# Altium schematic symbol library afra.SchLib: 135 symbols (part 4 of 4)
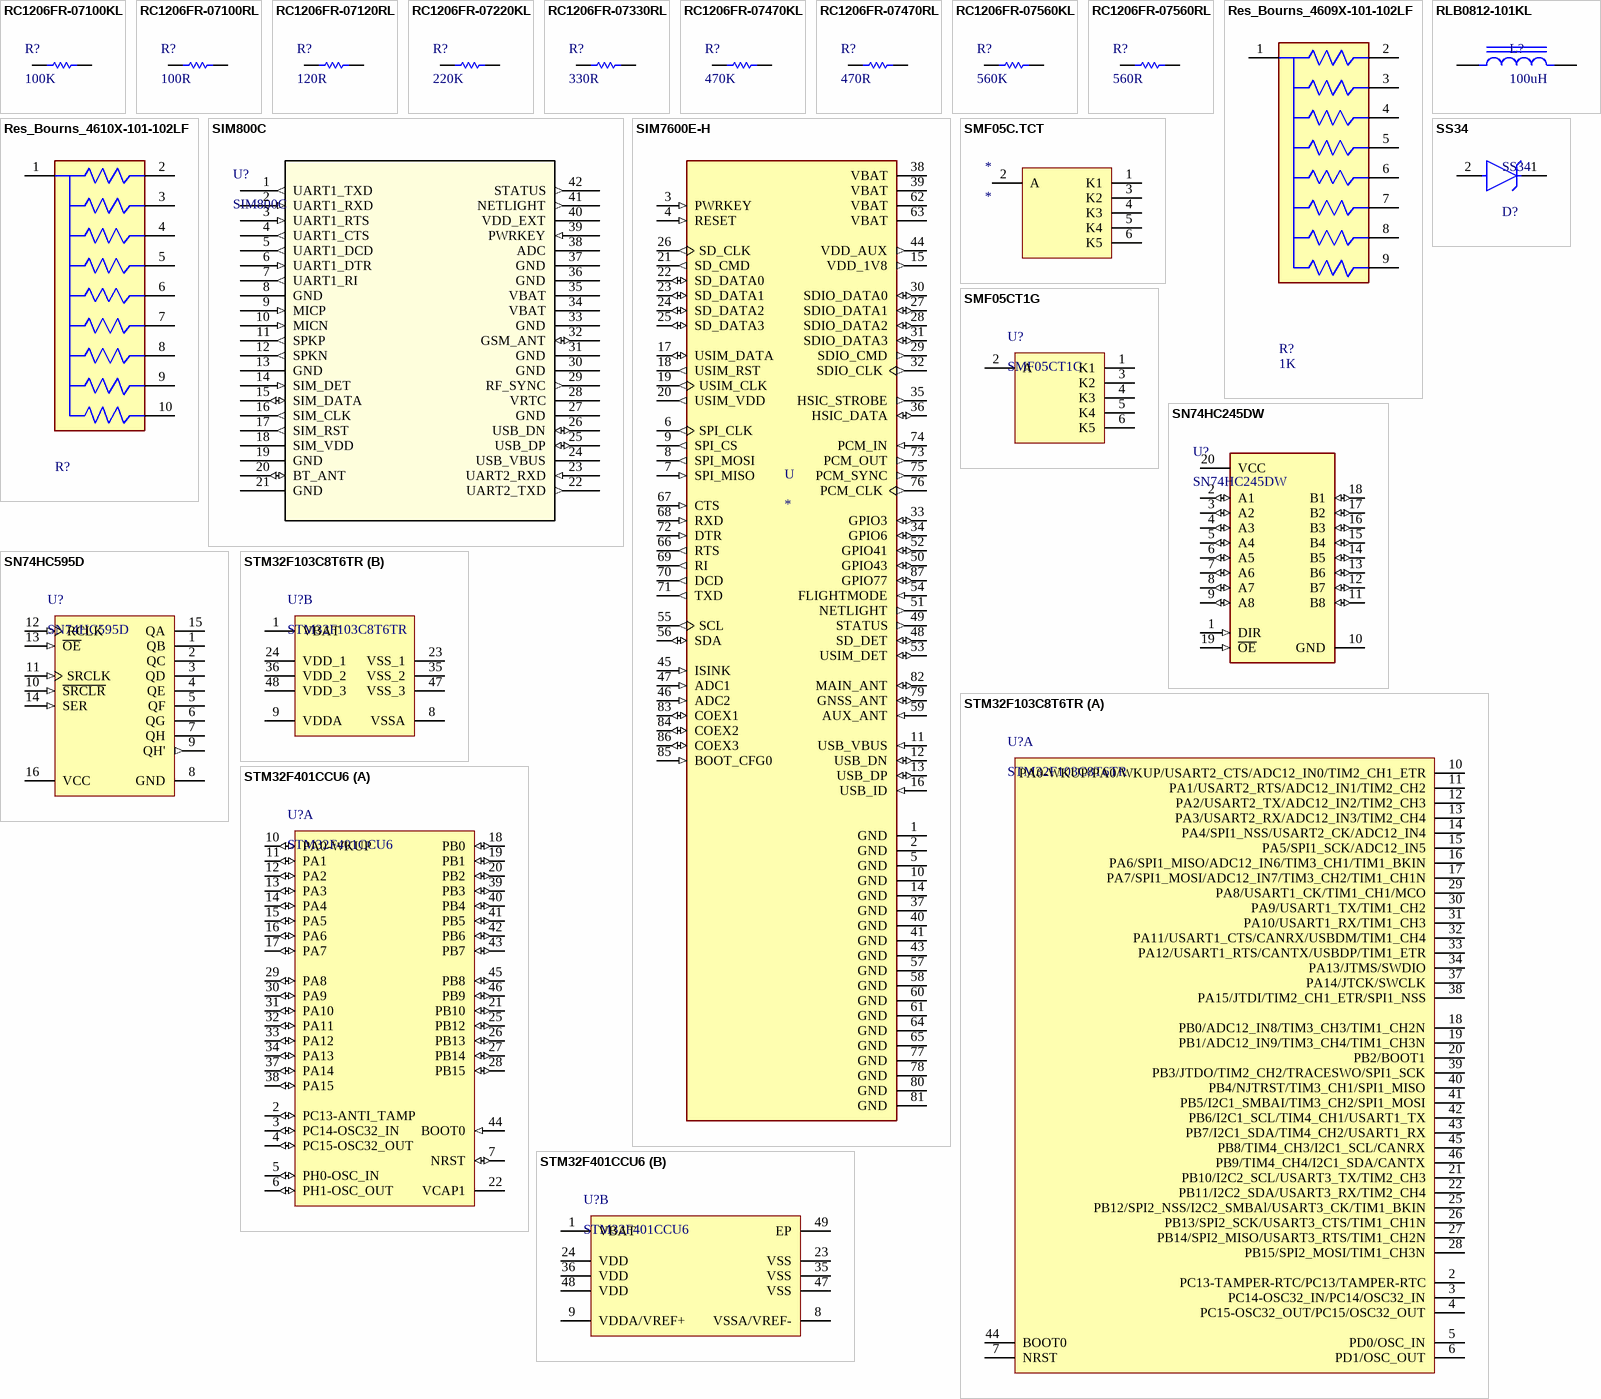
[diagram p7: symbols RC1206FR-07100KL to STM32F401CCU6]

## RC1206FR-07560RL
designator R?, comment 560R
Res Thick Film 1206 560 Ohm 1% 0.25W(1/4W) ±100ppm/°C Pad SMD T/R; Manufacturer: Yageo; Manufacturer Part Number: RC1206FR-07560RL; Power Rating: 250mW; Voltage Rating: 200V; Supplier 1: Arrow Electronics; RoHS: Yes; Category: Chip SMD Resistors; Stock 1: 55000; Pricing 1: 5000=0.01200, 10000=0.01190, 25000=0.01180 (USD); Case/Package: 1206; Case Code (Metric): 3216; Case Code (Imperial): 1206; Size Code: 1206; Min Operating Temperature: -55°C; Max Operating Temperature: 155°C; Resistor Type: Thick Film; Tolerance: 1%; Package Quantity: 1; Resistance: 560R; Packaging: Tape and Reel; Number of Terminations: 2; Termination: SMD/SMT; Temperature Coefficient: 100ppm/°C; Max Power Dissipation: 250mW; Features: Moisture Resistant; Series: RC; Resistance Tolerance: 1%; Technology: THICK FILM; Length: 3.1mm; Width: 0.063inch; Height: 0.55mm; Depth: 1.6mm; REACH SVHC: Unknown; Lead Free: Lead Free; RoHS Compliant: Yes; ComponentLink1URL: https://datasheet.ciiva.com/11809/0900766b80c6630a-11809524.pdf?src-supplier=RSComponents; ComponentLink1Description: https://datasheet.ciiva.com/11809/0900766b80c6630a-11809524.pdf?src-supplier=RSComponents; ComponentLink2URL: https://datasheet.ciiva.com/29181/402516-da-01-en-smd-widerstand-chip1206-560-ohm-29181453.pdf?src-supplier=Conrad; ComponentLink2Description: https://datasheet.ciiva.com/29181/402516-da-01-en-smd-widerstand-chip1206-560-ohm-29181453.pdf?src-supplier=Conrad; ComponentLink3URL: https://datasheet.ciiva.com/2460/pyu-rc1206-51-rohs-l-4-2460178.pdf?src-supplier=Digi-Key; ComponentLink3Description: https://datasheet.ciiva.com/2460/pyu-rc1206-51-rohs-l-4-2460178.pdf?src-supplier=Digi-Key; ComponentLink4URL: https://datasheet.ciiva.com/2460/pyu-rc1206-51-rohs-l-4-2460179.pdf?src-supplier=Digi-Key; ComponentLink4Description: https://datasheet.ciiva.com/2460/pyu-rc1206-51-rohs-l-4-2460179.pdf?src-supplier=Digi-Key; ComponentLink5URL: https://datasheet.ciiva.com/2460/pyu-rc1206-51-rohs-l-4-2460177.pdf?src-supplier=Digi-Key; ComponentLink5Description: https://datasheet.ciiva.com/2460/pyu-rc1206-51-rohs-l-4-2460177.pdf?src-supplier=Digi-Key; ComponentLink6URL: https://datasheet.ciiva.com/7857/444357-7857373.pdf?src-supplier=Element14; ComponentLink6Description: https://datasheet.ciiva.com/7857/444357-7857373.pdf?src-supplier=Element14; ComponentLink7URL: https://datasheet.ciiva.com/7857/444357-7857372.pdf?src-supplier=Element14; ComponentLink7Description: https://datasheet.ciiva.com/7857/444357-7857372.pdf?src-supplier=Element14; ComponentLink8URL: https://datasheet.ciiva.com/17071/pyu-rc1206-51-rohs-l-4-17071045.pdf?src-supplier=Future+Electronics; ComponentLink8Description: https://datasheet.ciiva.com/17071/pyu-rc1206-51-rohs-l-4-17071045.pdf?src-supplier=Future+Electronics; Supplier Part Number 1: RC1206FR-07560RL
footprint R0402
pins: 1, 2

## Res_Bourns_4609X-101-102LF
designator R?, comment 1K
RES ARRAY 8 RES 1K OHM 9SIP, 1k Ohm ±2% 200mW Power Per Element Bussed Resistor Network/Array ±100ppm/°C 9-SIP; Manufacturer: Bourns; Part Number: 4610X-101-104LF; Resistance: 100kΩ; Value: 100kΩ; Num Pins: 10; power_rating: 1.25 W; voltage_rating_dc: 100 V; size_length: 25.35 mm; Category 7542B8484461Ae85: Passive Components; size_thickness: 2.49 mm; lead_length: 3.43 mm; Category 917D5C77A0544Aba: Arrays; Temperature_Range_High: +125°C; Category 5A00970A6D5C81C7: Uncategorized; Category 5C6A91606D4187Ad: Resistors; Temperature_Range_Low: -55°C; Category Cd01000Bfc2916C6: Single Components; size_height: 5.08 mm; insulation_resistance: 10 MΩ; helpURL: https://upverter.com/upn/revision/6aaaf76f4c7f149a/; ComponentLink2Description: Datasheet; Temperature: to; Package: SIP-10; Price: 0.285491864114; ComponentLink1URL: https://upverter.com/upn/revision/6aaaf76f4c7f149a/; ComponentLink1Description: Upverter; ComponentLink2URL: http://www.bourns.com/docs/Product-Datasheets/4600x.pdf; RoHS: TRUE; number_of_contacts: 10; Digikey_Description: RES ARRAY 9 RES 100K OHM 10SIP; Mouser_Part_Number: 652-4610X-1LF-100K; Digikey_Part_Number: 4610X-1-104LF-ND; Lead Free: yes; Mounting Type: through hole; size_width: 2.49 mm; resistance_tolerance: ±2%; Octopart Part Number: 2bf2e2f92733f435; Supplier 1: Digi-Key; Supplier Part Number 1: 4609X-101-102LF-ND
footprint 9Pin_Resistor_Array
pins: 1, 2, 3, 4, 5, 6, 7, 8, 9

## Res_Bourns_4610X-101-102LF
designator R?, comment 1K  (value not drawn)
RES ARRAY 9 RES 1K OHM 10SIP, 1k Ohm ±2% 200mW Power Per Element Bussed Resistor Network/Array ±100ppm/°C 10-SIP; Manufacturer: Bourns; Part Number: 4610X-101-104LF; Resistance: 100kΩ; Value: 100kΩ; Num Pins: 10; power_rating: 1.25 W; voltage_rating_dc: 100 V; size_length: 25.35 mm; Category 7542B8484461Ae85: Passive Components; size_thickness: 2.49 mm; lead_length: 3.43 mm; Category 917D5C77A0544Aba: Arrays; Temperature_Range_High: +125°C; Category 5A00970A6D5C81C7: Uncategorized; Category 5C6A91606D4187Ad: Resistors; Temperature_Range_Low: -55°C; Category Cd01000Bfc2916C6: Single Components; size_height: 5.08 mm; insulation_resistance: 10 MΩ; helpURL: https://upverter.com/upn/revision/6aaaf76f4c7f149a/; ComponentLink2Description: Datasheet; Temperature: to; Package: SIP-10; Price: 0.285491864114; ComponentLink1URL: https://upverter.com/upn/revision/6aaaf76f4c7f149a/; ComponentLink1Description: Upverter; ComponentLink2URL: http://www.bourns.com/docs/Product-Datasheets/4600x.pdf; RoHS: TRUE; number_of_contacts: 10; Digikey_Description: RES ARRAY 9 RES 100K OHM 10SIP; Mouser_Part_Number: 652-4610X-1LF-100K; Digikey_Part_Number: 4610X-1-104LF-ND; Lead Free: yes; Mounting Type: through hole; size_width: 2.49 mm; resistance_tolerance: ±2%; Octopart Part Number: 2bf2e2f92733f435; Supplier 1: Digi-Key; Supplier Part Number 1: 4610X-1-102LF-ND
footprint 10Pin_Resistor_Array
pins: 1, 2, 3, 4, 5, 6, 7, 8, 9, 10

## RLB0812-101KL
designator L?, comment 100uH
FIXED IND 100UH 320MA 600 MOHM; Manufacturer: Bourns; Manufacturer Part Number: RLB0812-101KL; Core Material: Ferrite; Tolerance: 10%; Self Resonant Frequency: 4.2MHz; Shielding: Unshielded; DC Resistance (DCR): 600mR; Q Factor: 45; Test Frequency: 796kHz; Lead/Base Style: Radial; Lead Diameter: 0.65mm; Supplier 1: Digi-Key; RoHS: Yes; Category: Fixed Inductors; Stock 1: 1145; Pricing 1: 1=0.40000, 10=0.35200, 25=0.30800, 50=0.26400, 100=0.24200, 250=0.22000, 500=0.20680, 1000=0.15840, 2500=0.14960 (USD); Mount: Through Hole; Case/Package: Radial; Min Operating Temperature: -40°C; Max Operating Temperature: 105°C; Package Quantity: 400; Packaging: Bulk; Current Rating: 320mA; Inductance: 100uH; Max DC Current: 320mA; Termination: Radial; DC Current: 320mA; Series: RLB; Diameter: 6.7mm; Length: 10mm; Height: 0.394inch; Lead Pitch: 3mm; Radiation Hardening: No; Military Standard: Not; RoHS Compliant: Yes; ComponentLink1URL: https://datasheet.ciiva.com/1069/rlb-1069242.pdf?src-supplier=Digi-Key; ComponentLink1Description: https://datasheet.ciiva.com/1069/rlb-1069242.pdf?src-supplier=Digi-Key; ComponentLink2URL: https://datasheet.ciiva.com/4960/rlb-4960710.pdf?src-supplier=Mouser; ComponentLink2Description: https://datasheet.ciiva.com/4960/rlb-4960710.pdf?src-supplier=Mouser; ComponentLink3URL: https://datasheet.ciiva.com/8110/rlb-8110999.pdf?src-supplier=Avnet; ComponentLink3Description: https://datasheet.ciiva.com/8110/rlb-8110999.pdf?src-supplier=Avnet; Supplier Part Number 1: RLB0812-101KL-ND
footprint Radia_03
pins: 1, 2

## SIM800C
designator U?
No Description Available; Mfr_Name: Simcom; Copyright: Copyright (C) 2022 Ultra Librarian. All rights reserved.; Manufacturer_Part_Number: SIM800C; RefDes: RefDes; Type: DEV
footprint SIM800C_SMM
pins: 1 UART1_TXD (out), 2 UART1_RXD (in), 3 UART1_RTS (in), 4 UART1_CTS (out), 5 UART1_DCD (out), 6 UART1_DTR (in), 7 UART1_RI (out), 8 GND, 9 MICP (in), 10 MICN (in), 11 SPKP (out), 12 SPKN (out), 13 GND, 14 SIM_DET (in), 15 SIM_DATA (io), 16 SIM_CLK (out), 17 SIM_RST (out), 18 SIM_VDD (power), 19 GND, 20 BT_ANT (io), 21 GND, 22 UART2_TXD (out), 23 UART2_RXD (in), 24 USB_VBUS (power), 25 USB_DP (io), 26 USB_DN (io), 27 GND, 28 VRTC (power), 29 RF_SYNC (out), 30 GND, 31 GND, 32 GSM_ANT (io), 33 GND, 34 VBAT (power), 35 VBAT (power), 36 GND, 37 GND, 38 ADC, 39 PWRKEY (in), 40 VDD_EXT (power), 41 NETLIGHT (out), 42 STATUS (out)

## SIM7600E-H
designator U
Multi-Band LTE-TDD/LTE-FDD/HSPA+ and GSM/GPRS/EDGE module; MP: SIM7600E-H; MF: Simcom; Availability: Unavailable; Package: None; Value: *; Price: None; SnapEDA_Link: https://www.snapeda.com/parts/SIM7600E-H/SIMcom%20Wireless%20solutions%20Co.%2CLtd/view-part/2758290/?ref=snap
footprint IC_SIM7600E-H
pins: 1 GND (power), 2 GND (power), 3 PWRKEY (in), 4 RESET (in), 5 GND (power), 6 SPI_CLK (out), 7 SPI_MISO (in), 8 SPI_MOSI (out), 9 SPI_CS (out), 10 GND (power), 11 USB_VBUS (in), 12 USB_DN (io), 13 USB_DP (io), 14 GND (power), 15 VDD_1V8 (out), 16 USB_ID (in), 17 USIM_DATA (io), 18 USIM_RST (out), 19 USIM_CLK (out), 20 USIM_VDD (out), 21 SD_CMD (out), 22 SD_DATA0 (io), 23 SD_DATA1 (io), 24 SD_DATA2 (io), 25 SD_DATA3 (io), 26 SD_CLK (out), 27 SDIO_DATA1 (io), 28 SDIO_DATA2 (io), 29 SDIO_CMD (out), 30 SDIO_DATA0 (io), 31 SDIO_DATA3 (io), 32 SDIO_CLK (out), 33 GPIO3 (io), 34 GPIO6 (io), 35 HSIC_STROBE (out), 36 HSIC_DATA (io), 37 GND (power), 38 VBAT (power), 39 VBAT (power), 40 GND (power), 41 GND (power), 43 GND (power), 44 VDD_AUX (out), 45 ISINK (in), 46 ADC2 (in), 47 ADC1 (in), 48 SD_DET (io), 49 STATUS (out), 50 GPIO43 (io), 51 NETLIGHT (out), 52 GPIO41 (io), 53 USIM_DET (io), 54 FLIGHTMODE (in), 55 SCL (out), 56 SDA (io), 57 GND (power), 58 GND (power), 59 AUX_ANT (in), 60 GND (power), 61 GND (power), 62 VBAT (power), 63 VBAT (power), 64 GND (power), 65 GND (power), 66 RTS (out), 67 CTS (in), 68 RXD (in), 69 RI (out), 70 DCD (out), 71 TXD (out), 72 DTR (in), 73 PCM_OUT (out), 74 PCM_IN (in), 75 PCM_SYNC (out), 76 PCM_CLK (out), 77 GND (power), 78 GND (power), 79 GNSS_ANT (io), 80 GND (power), 81 GND (power), 82 MAIN_ANT (io), 83 COEX1 (io), 84 COEX2 (io), 85 BOOT_CFG0 (in), 86 COEX3 (io), 87 GPIO77 (io)

## SMF05C.TCT
designator *
ESD Suppressor TVS 15KV 6-Pin SC-70 T/R; Manufacturer: Semtech; Manufacturer Part Number: SMF05C.TCT; Direction: Unidirectional; Capacitance: 130pF; Reverse Breakdown Voltage: 6V; Number of Elements: 5; Element Configuration: Common Anode; Reverse Standoff Voltage: 5V; Clamping Voltage: 12.5V; Peak Pulse Power: 100W; Power Line Protection: No; Leakage Current: 5uA; Peak Pulse Current: 8A; Test Current: 1mA; ESD Protection: Yes; Diode Type: ZENER; Supplier 1: Digi-Key; RoHS: Yes; Category: TVS Diodes; Stock 1: 5534; Pricing 1: 1=0.87000, 10=0.76200, 100=0.58440, 500=0.46200, 1000=0.36960 (USD); Mount: Surface Mount; Case/Package: SC; Number of Pins: 6; Min Operating Temperature: -55°C; Max Operating Temperature: 125°C; Packaging: Tape and Reel; Number of Channels: 5; Number of Unidirectional Channels: 5; Min Breakdown Voltage: 6V; Working Voltage: 5V; Polarity: Unidirectional; Max Reverse Leakage Current: 5uA; Max Breakdown Voltage: 6V; Voltage Rating (DC): 5V; Operating Supply Voltage: 5V; Resistor Type: Zener; Series: SMF; Clamping Voltage-Max: 12.5V; Length: 2mm; Width: 1.25mm; Height: 0.9mm; Depth: 1.25mm; Radiation Hardening: No; Lead Free: Lead Free; RoHS Compliant: Yes; ComponentLink1URL: https://datasheet.ciiva.com/338/smf05c-338385.pdf?src-supplier=Digi-Key; ComponentLink1Description: https://datasheet.ciiva.com/338/smf05c-338385.pdf?src-supplier=Digi-Key; ComponentLink2URL: https://datasheet.ciiva.com/18065/getdatasheetpartid-89007-18065142.pdf?src-supplier=Verical; ComponentLink2Description: https://datasheet.ciiva.com/18065/getdatasheetpartid-89007-18065142.pdf?src-supplier=Verical; ComponentLink3URL: https://datasheet.ciiva.com/338/smf05c-338386.pdf?src-supplier=Digi-Key; ComponentLink3Description: https://datasheet.ciiva.com/338/smf05c-338386.pdf?src-supplier=Digi-Key; ComponentLink4URL: https://datasheet.ciiva.com/338/smf05c-338387.pdf?src-supplier=Digi-Key; ComponentLink4Description: https://datasheet.ciiva.com/338/smf05c-338387.pdf?src-supplier=Digi-Key; ComponentLink5URL: https://datasheet.ciiva.com/16387/smf05c-16387308.pdf?src-supplier=Future+Electronics; ComponentLink5Description: https://datasheet.ciiva.com/16387/smf05c-16387308.pdf?src-supplier=Future+Electronics; Supplier Part Number 1: SMF05CCT-ND
footprint ONSC-SC70-6-419B-02_W_V (SOT23, 6-Leads, Body 2x1.25mm, Pitch 0.65mm)
pins: 1 K1, 2 A, 3 K2, 4 K3, 5 K4, 6 K5

## SMF05CT1G
designator U?
5-Line Transient Voltage Suppressor Array, 6-Pin SC70, Pb-Free, Tape and Reel; Manufacturer: On Semiconductor; Direction: Unidirectional; PPK Max (W): 100; IR Max (uA): 5; ComponentLink1Description: Manufacturer URL; ComponentLink2Description: Datasheet; DatasheetVersion: Rev. 4; Mounting Technology: Surface Mount; ComponentLink3URL: http://www.onsemi.com/pub_link/Collateral/SMF05C-D.PDF; ComponentLink3Description: Package Specification; ComponentLink1URL: http://www.onsemi.com/; ComponentLink2URL: http://www.onsemi.com/pub_link/Collateral/SMF05C-D.PDF; Packing: Tape and Reel; PartNumber: SMF05CT1G; PackageReference: SC70-6-419B-02_W; PackageDescription: 6-Pin Small Outline Transistor, Body 2 x 1.25 mm, Pitch 0.65 mm; PackageVersion: Rev. W; RoHS: Pb-Free
footprint ONSC-SC70-6-419B-02_W_V
pins: 1 K1, 2 A, 3 K2, 4 K3, 5 K4, 6 K5

## SN74HC245DW
designator U?
Transceiver, Non-Inverting 1 Element 8 Bit per Element Push-Pull Output 20-SOIC; Manufacturer: Texas Instruments; Min Supply Voltage: 2V; Max Supply Voltage: 6V; Number of Channels: 8; Operating Supply Voltage: 5V; Number of Elements: 1; Direction: Bidirectional; Propagation Delay: 22ns; High Level Output Current: -7.8mA; Low Level Output Current: 7.8mA; Logic Function: Transceiver,Inverting; Turn-On Delay Time: 335ns; Quiescent Current: 8uA; Supplier 1: Rochester Electronics; Manufacturer Part Number: SN74HC245DW; RoHS: Yes; Category: Buffers, Drivers and Transceivers; Stock 1: 10523; Pricing 1: 1=0.59230, 25=0.58040, 100=0.56860, 500=0.55680, 1000=0.54490 (USD); Mount: Surface Mount; Case/Package: SOIC; Number of Pins: 20; Weight: 0.017662oz; Contact Plating: Gold; Min Operating Temperature: -40°C; Max Operating Temperature: 85°C; Packaging: Rail/Tube; Package Quantity: 25; Number of Bits per Element: 8; Number of Circuits: 8; Polarity: Non-Inverting; Number of Outputs: 8; Number of Bits: 8; Output Current: 7.8mA; Max Output Current: 7.8mA; Length: 12.8mm; Width: 7.52mm; Height: 2.35mm; Radiation Hardening: No; Lead Free: Lead Free; RoHS Compliant: Yes; REACH SVHC: No SVHC; ComponentLink1URL: https://datasheet.ciiva.com/7747/1635564-7747846.pdf?src-supplier=Element14; ComponentLink1Description: https://datasheet.ciiva.com/7747/1635564-7747846.pdf?src-supplier=Element14; ComponentLink2URL: https://datasheet.ciiva.com/15086/getdatasheetpartid-250110-15086515.pdf?src-supplier=Verical; ComponentLink2Description: https://datasheet.ciiva.com/15086/getdatasheetpartid-250110-15086515.pdf?src-supplier=Verical; ComponentLink3URL: https://datasheet.ciiva.com/1837/sn74hc245-1837904.pdf?src-supplier=Digi-Key; ComponentLink3Description: https://datasheet.ciiva.com/1837/sn74hc245-1837904.pdf?src-supplier=Digi-Key; ComponentLink4URL: https://datasheet.ciiva.com/14300/sn54hc245-sp-14300744.pdf?src-supplier=Avnet; ComponentLink4Description: https://datasheet.ciiva.com/14300/sn54hc245-sp-14300744.pdf?src-supplier=Avnet; Supplier Part Number 1: SN74HC245DW
footprint DB20
pins: 1 DIR (in), 2 A1 (io), 3 A2 (io), 4 A3 (io), 5 A4 (io), 6 A5 (io), 7 A6 (io), 8 A7 (io), 9 A8 (io), 10 GND (power), 11 B8 (io), 12 B7 (io), 13 B6 (io), 14 B5 (io), 15 B4 (io), 16 B3 (io), 17 B2 (io), 18 B1 (io), 19 ~{OE} (in), 20 VCC (power)

## SN74HC595D
designator U?
8-Bit Shift Registers With 3-State Output Registers, D0016A, TUBE; Technology Family: HC; VCC(Min)(V): 2; Input Type: CMOS; Bits: 8; F @ Nom Voltage(Max)(Mhz): 28; Rating: Military; VCC(Max)(V): 6; ICC @ Nom Voltage(Max)(mA): 0.08; Output Drive (IOL/IOH)(Max)(mA): 7.8/-7.8; tpd @ Nom Voltage(Max)(ns): 34; 3-State Output: Yes; Operating Temperature Range(C): -40 to 85; Code_IPC: MS-012 variation AC; PartNumber: SN74HC595D; ComponentLink1Description: Manufacturer URL; ComponentLink2Description: Datasheet; DatasheetVersion: SCLS041H; ComponentLink1URL: http://www.ti.com/; Output Type: CMOS; ComponentLink2URL: http://www.ti.com/lit/ds/symlink/sn74hc595.pdf; PackageReference: D0016A; PackageVersion: http://www.ti.com/lit/ml/mpds178g/mpds178g.pdf; Part Number: SN74HC595; Voltage(Nom)(V): 6; Supplier 1: Texas Instruments; Supplier Part Number 1: SN74HC595D
footprint Model Name (Model Description)
footprint Model Name (Model Description)
footprint SOIC16 (SOIC, 16-Leads, Body 10x4mm, Pitch 1.27mm, IPC Low Density)
footprint SOP-16
pins: 1 QB (hiz) "QB Output", 2 QC (hiz) "QC Output", 3 QD (hiz) "QD Output", 4 QE (hiz) "QE Output", 5 QF (hiz) "QF Output", 6 QG (hiz) "QG Output", 7 QH (hiz) "QH Output", 8 GND (power) "Ground Pin", 9 QH' (out) "QH' Output", 10 ~{SRCLR} (in) "S\R\C\L\R\ Input", 11 SRCLK (in) "SRCLK Input", 12 RCLK (in) "RCLK Input", 13 ~{OE} (in) "Output Enable Pin", 14 SER (in) "SER Input", 15 QA (hiz) "QA Output", 16 VCC (power) "Power Pin"

## SS34
designator D?
DIODE SCHOTTKY 40V 3A SMC; Supplier 1: Newark; Supplier Part Number 1: 05R5898
footprint SMA (DO-214AC)
pins: 1 C, 2 A

## STM32F103C8T6TR
designator U?
ARM Cortex-M3 32-bit MCU, 64 KB Flash, 20 KB Internal RAM, 37 I/Os, 48-pin LQFP, -40 to 85 degC, Tape and Reel; Operating Frequency(F) (Processor speed) (MHz): 72; Supply Voltage(Vcc) min (V): 2; FLASH Size (Prog) (kB): 64; A/D Converter: 2x12-bit (10 Channel); I/Os (High Current): 37; Internal RAM Size (kB): 20; Core: ARM Cortex-M3; ComponentLink2Description: Datasheet; DatasheetVersion: Rev. 16; Mounting Technology: Surface Mount; ComponentLink3URL: http://www.st.com/st-web-ui/static/active/en/resource/technical/document/datasheet/DM00058181.pdf; ComponentLink3Description: Package Specification; ComponentLink1URL: http://www.st.com/web/en/home.html; ComponentLink1Description: Manufacturer URL; PartNumber: STM32F103C8T6TR; PackageDescription: 48-Pin Low Profile Quad Flat Package, 7 x 7 mm Body, 0.5 mm Pitch; Packing: Tape and Reel; PackageVersion: Rev. 6, 06/2013; ComponentLink2URL: http://www.st.com/st-web-ui/static/active/en/resource/technical/document/datasheet/CD00161566.pdf; PackageReference: LQFP48
footprint STM-LQFP48_N (QFP, 48-Leads, Body 7x7mm, Pitch 0.5mm, IPC Medium Density)
part A pins: 2 PC13-TAMPER-RTC/PC13/TAMPER-RTC, 3 PC14-OSC32_IN/PC14/OSC32_IN, 4 PC15-OSC32_OUT/PC15/OSC32_OUT, 5 PD0/OSC_IN, 6 PD1/OSC_OUT, 7 NRST, 10 PA0-WKUP/PA0/WKUP/USART2_CTS/ADC12_IN0/TIM2_CH1_ETR, 11 PA1/USART2_RTS/ADC12_IN1/TIM2_CH2, 12 PA2/USART2_TX/ADC12_IN2/TIM2_CH3, 13 PA3/USART2_RX/ADC12_IN3/TIM2_CH4, 14 PA4/SPI1_NSS/USART2_CK/ADC12_IN4, 15 PA5/SPI1_SCK/ADC12_IN5, 16 PA6/SPI1_MISO/ADC12_IN6/TIM3_CH1/TIM1_BKIN, 17 PA7/SPI1_MOSI/ADC12_IN7/TIM3_CH2/TIM1_CH1N, 18 PB0/ADC12_IN8/TIM3_CH3/TIM1_CH2N, 19 PB1/ADC12_IN9/TIM3_CH4/TIM1_CH3N, 20 PB2/BOOT1, 21 PB10/I2C2_SCL/USART3_TX/TIM2_CH3, 22 PB11/I2C2_SDA/USART3_RX/TIM2_CH4, 25 PB12/SPI2_NSS/I2C2_SMBAl/USART3_CK/TIM1_BKIN, 26 PB13/SPI2_SCK/USART3_CTS/TIM1_CH1N, 27 PB14/SPI2_MISO/USART3_RTS/TIM1_CH2N, 28 PB15/SPI2_MOSI/TIM1_CH3N, 29 PA8/USART1_CK/TIM1_CH1/MCO, 30 PA9/USART1_TX/TIM1_CH2, 31 PA10/USART1_RX/TIM1_CH3, 32 PA11/USART1_CTS/CANRX/USBDM/TIM1_CH4, 33 PA12/USART1_RTS/CANTX/USBDP/TIM1_ETR, 34 PA13/JTMS/SWDIO, 37 PA14/JTCK/SWCLK, 38 PA15/JTDI/TIM2_CH1_ETR/SPI1_NSS, 39 PB3/JTDO/TIM2_CH2/TRACESWO/SPI1_SCK, 40 PB4/NJTRST/TIM3_CH1/SPI1_MISO, 41 PB5/I2C1_SMBAI/TIM3_CH2/SPI1_MOSI, 42 PB6/I2C1_SCL/TIM4_CH1/USART1_TX, 43 PB7/I2C1_SDA/TIM4_CH2/USART1_RX, 44 BOOT0, 45 PB8/TIM4_CH3/I2C1_SCL/CANRX, 46 PB9/TIM4_CH4/I2C1_SDA/CANTX
part B pins: 1 VBAT (power), 8 VSSA (power), 9 VDDA (power), 23 VSS_1 (power), 24 VDD_1 (power), 35 VSS_2 (power), 36 VDD_2 (power), 47 VSS_3 (power), 48 VDD_3 (power)

## STM32F401CCU6
designator U?
ARM Cortex-M4 32-bit MCU+FPU, 105 DMIPS, 256 kB Flash, 64 kB Internal RAM, 36 I/Os, 48-pin UFQFPN, -40 to 85 degC, Tray; Manufacturer: STMicroelectronics; Operating Frequency(F) (Processor speed) (MHz): 84; Supply Voltage(Vcc) min (V): 1.8; FLASH Size (Prog) (kB): 256; Supply Voltage(Vcc) max (V): 3.6; I/Os (High Current): 36; Internal RAM Size (kB): 64; PackageVersion: Rev. 1, 04/2013; Core: ARM Cortex-M4; ComponentLink2Description: Datasheet; ComponentLink1Description: Manufacturer URL; PackageDescription: 48-Pin Ultra Thin Fine Pitch Quad Flat No-Lead, 7 x 7 x 0.6 mm Body, 0.5 mm Pitch, Exposed Pad; ComponentLink3Description: Package Specification; DatasheetVersion: Rev. 1; ComponentLink1URL: http://www.st.com/web/en/home.html; Mounting Technology: Surface Mount; Packing: Tray; ComponentLink3URL: http://www.st.com/st-web-ui/static/active/en/resource/technical/document/data_brief/DM00071938.pdf; PartNumber: STM32F401CCU6; PackageReference: UFQFPN48; ComponentLink2URL: http://www.st.com/st-web-ui/static/active/en/resource/technical/document/data_brief/DM00071938.pdf; Supplier 1: Newark; Supplier Part Number 1: 39X0190
footprint STM-UFQFPN48_N
footprint STM-UFQFPN48_L
footprint STM-UFQFPN48_M (QFN, 48-Leads, Body 7.1x7.1mm, Pitch 0.5mm, Thermal Pad 5.6x5.6mm, IPC Low Density)
part A pins: 2 PC13-ANTI_TAMP (io) "PC13-ANTI_TAMP/TAMP_1", 3 PC14-OSC32_IN (io) "PC14-OSC32_IN/OSC32_IN", 4 PC15-OSC32_OUT (io) "PC15-OSC32_OUT/OSC32_OUT", 5 PH0-OSC_IN (io) "PH0-OSC_IN/OSC_IN", 6 PH1-OSC_OUT (io) "PH1-OSC_OUT/OSC_OUT", 7 NRST (io), 10 PA0-WKUP (io) "PA0-WKUP/USART2_CTS,TIM2_CH1/TIM2_ETR,TIM5_CH1/ADC1_0,WKUP", 11 PA1 (io) "PA1/USART2_RTS,TIM2_CH2,TIM5_CH2/ADC1_1", 12 PA2 (io) "PA2/USART2_TX,TIM2_CH3,TIM5_CH3,TIM9_CH1/ADC1_2", 13 PA3 (io) "PA3/USART2_RX,TIM2_CH4,TIM5_CH4,TIM9_CH2/ADC1_3", 14 PA4 (io) "PA4/SPI1_NSS,SPI3_NSS/I2S3_WS,USART2_CK/ADC1_4", 15 PA5 (io) "PA5/SPI1_SCK,TIM2_CH1/TIM2_ETR/ADC1_5", 16 PA6 (io) "PA6/SPI1_MISO,TIM1_BKIN,TIM3_CH1/ADC1_6", 17 PA7 (io) "PA7/SPI1_MOSI,TIM1_CH1N,TIM3_CH2/ADC1_7", 18 PB0 (io) "PB0/TIM1_CH2N,TIM3_CH3/ADC1_8", 19 PB1 (io) "PB1/TIM1_CH3N,TIM3_CH4/ADC1_9", 20 PB2 (io), 21 PB10 (io) "PB10/SPI2_SCK/I2S2_CK,I2C2_SCL,TIM2_CH3", 22 VCAP1 (power), 25 PB12 (io) "PB12/SPI2_NSS/I2S2_WS,I2C2_SMBAL,TIM1_BKIN", 26 PB13 (io) "PB13/SPI2_SCK/I2S2_CK,TIM1_CH1N", 27 PB14 (io) "PB14/SPI2_MISO,I2S2ext_SD,TIM1_CH2N", 28 PB15 (io) "PB15/SPI2_MOSI/I2S2_SD,TIM1_CH3N,RTC_50Hz", 29 PA8 (io) "PA8/I2C3_SCL,USART1_CK,TIM1_CH1,USB_FS_SOF,MCO_1", 30 PA9 (io) "PA9/I2C3_SMBAL,USART1_TX,TIM1_CH2,USB_FS_VBUS", 31 PA10 (io) "PA10/USART1_RX,TIM1_CH3,USB_FS_ID", 32 PA11 (io) "PA11/USART1_CTS,USART6_TX,TIM1_CH4,USB_FS_DM", 33 PA12 (io) "PA12/USART1_RTS,USART6_RX,TIM1_ETR,USB_FS_DP", 34 PA13 (io) "PA13/JTMS-SWDIO", 37 PA14 (io) "PA14/JTCK-SWCLK", 38 PA15 (io) "PA15/SPI1_NSS,SPI3_NSS/I2S3_WS,TIM2_CH1/TIM2_ETR,JTDI", 39 PB3 (io) "PB3/SPI1_SCK,SPI3_SCK/I2S3_CK,I2C2_SDA,TIM2_CH2,JTDO-SWO", 40 PB4 (io) "PB4/SPI1_MISO,SPI3_MISO,I2S3ext_SD,I2C3_SDA,TIM3_CH1,JTRST", 41 PB5 (io) "PB5/SPI1_MOSI,SPI3_MOSI/I2S3_SD,I2C1_SMBAL,TIM3_CH2", 42 PB6 (io) "PB6/I2C1_SCL,USART1_TX,TIM4_CH1", 43 PB7 (io) "PB7/I2C1_SDA,USART1_RX,TIM4_CH2", 44 BOOT0 (in), 45 PB8 (io) "PB8/I2C1_SCL,TIM4_CH3,TIM10_CH1,SDIO_D4", 46 PB9 (io) "PB9/SPI2_NSS/I2S2_WS,I2C1_SDA,TIM4_CH4,TIM11_CH1,SDIO_D5"
part B pins: 1 VBAT (power), 8 VSSA/VREF- (power), 9 VDDA/VREF+ (power), 23 VSS (power), 24 VDD (power), 35 VSS (power), 36 VDD (power), 47 VSS (power), 48 VDD (power), 49 EP (power)

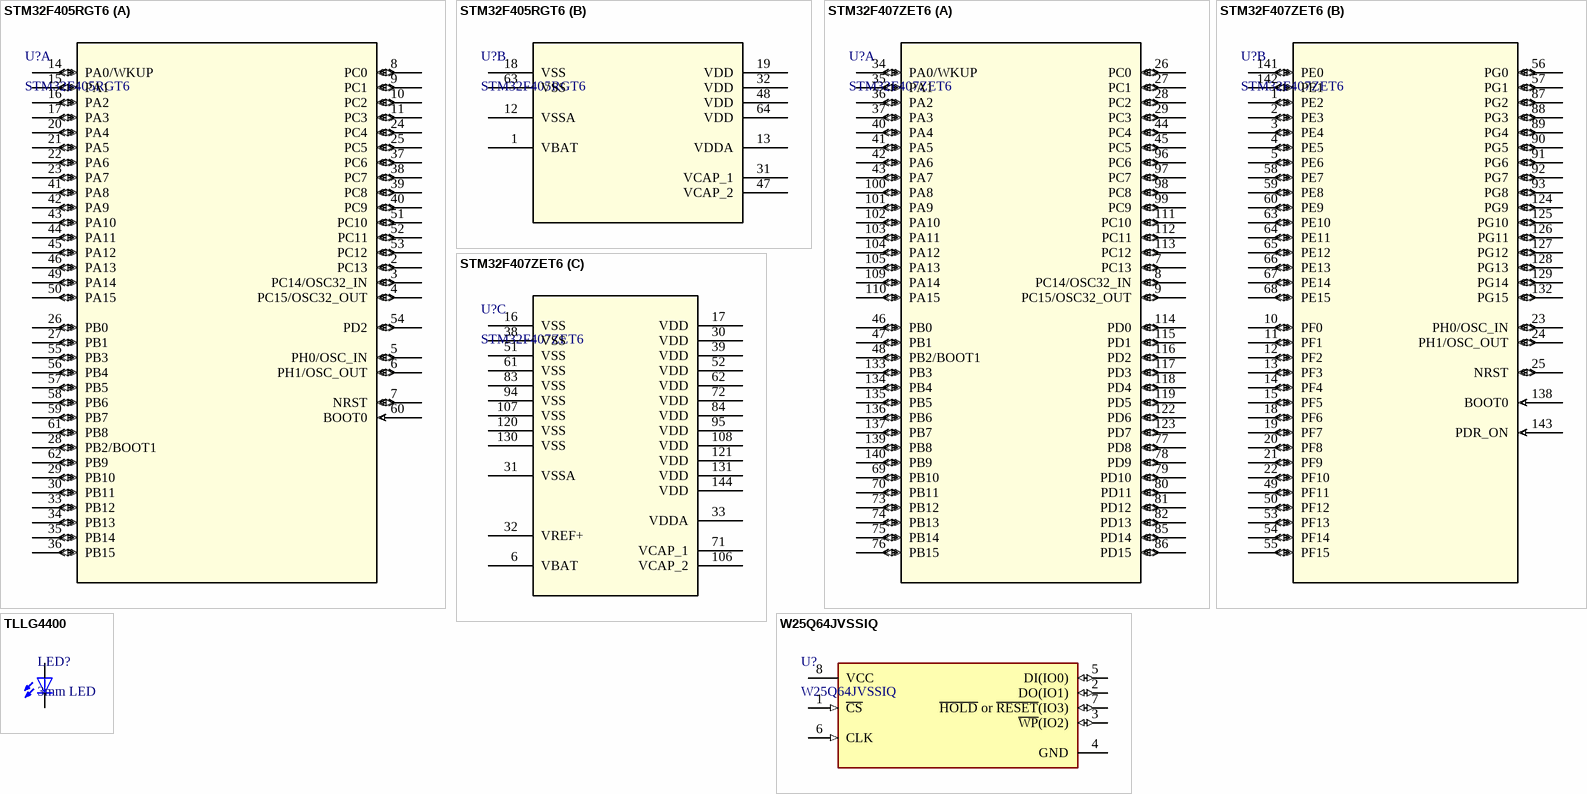
[diagram p4: symbols STM32F405RGT6 to W25Q64JVSSIQ]

## STM32F405RGT6
designator U?
No Description Available; Mfr_Name: STMicroelectronics; Copyright: Copyright (C) 2022 Ultra Librarian. All rights reserved.; Manufacturer_Part_Number: STM32F405RGT6; RefDes: RefDes; Type: DEV
footprint LQFP64-10x10mm
part A pins: 2 PC13 (io), 3 PC14/OSC32_IN (io), 4 PC15/OSC32_OUT (io), 5 PH0/OSC_IN (io), 6 PH1/OSC_OUT (io), 7 NRST (io), 8 PC0 (io), 9 PC1 (io), 10 PC2 (io), 11 PC3 (io), 14 PA0/WKUP (io), 15 PA1 (io), 16 PA2 (io), 17 PA3 (io), 20 PA4 (io), 21 PA5 (io), 22 PA6 (io), 23 PA7 (io), 24 PC4 (io), 25 PC5 (io), 26 PB0 (io), 27 PB1 (io), 28 PB2/BOOT1 (io), 29 PB10 (io), 30 PB11 (io), 33 PB12 (io), 34 PB13 (io), 35 PB14 (io), 36 PB15 (io), 37 PC6 (io), 38 PC7 (io), 39 PC8 (io), 40 PC9 (io), 41 PA8 (io), 42 PA9 (io), 43 PA10 (io), 44 PA11 (io), 45 PA12 (io), 46 PA13 (io), 49 PA14 (io), 50 PA15 (io), 51 PC10 (io), 52 PC11 (io), 53 PC12 (io), 54 PD2 (io), 55 PB3 (io), 56 PB4 (io), 57 PB5 (io), 58 PB6 (io), 59 PB7 (io), 60 BOOT0 (in), 61 PB8 (io), 62 PB9 (io)
part B pins: 1 VBAT (power), 12 VSSA (power), 13 VDDA (power), 18 VSS (power), 19 VDD (power), 31 VCAP_1 (power), 32 VDD (power), 47 VCAP_2 (power), 48 VDD (power), 63 VSS (power), 64 VDD (power)

## STM32F407ZET6
designator U?
No Description Available; Mfr_Name: STMicroelectronics; Copyright: Copyright (C) 2022 Ultra Librarian. All rights reserved.; Manufacturer_Part_Number: STM32F407ZET6; RefDes: RefDes; Type: DEV
footprint LQFP144-20x20mm
part A pins: 7 PC13 (io), 8 PC14/OSC32_IN (io), 9 PC15/OSC32_OUT (io), 26 PC0 (io), 27 PC1 (io), 28 PC2 (io), 29 PC3 (io), 34 PA0/WKUP (io), 35 PA1 (io), 36 PA2 (io), 37 PA3 (io), 40 PA4 (io), 41 PA5 (io), 42 PA6 (io), 43 PA7 (io), 44 PC4 (io), 45 PC5 (io), 46 PB0 (io), 47 PB1 (io), 48 PB2/BOOT1 (io), 69 PB10 (io), 70 PB11 (io), 73 PB12 (io), 74 PB13 (io), 75 PB14 (io), 76 PB15 (io), 77 PD8 (io), 78 PD9 (io), 79 PD10 (io), 80 PD11 (io), 81 PD12 (io), 82 PD13 (io), 85 PD14 (io), 86 PD15 (io), 96 PC6 (io), 97 PC7 (io), 98 PC8 (io), 99 PC9 (io), 100 PA8 (io), 101 PA9 (io), 102 PA10 (io), 103 PA11 (io), 104 PA12 (io), 105 PA13 (io), 109 PA14 (io), 110 PA15 (io), 111 PC10 (io), 112 PC11 (io), 113 PC12 (io), 114 PD0 (io), 115 PD1 (io), 116 PD2 (io), 117 PD3 (io), 118 PD4 (io), 119 PD5 (io), 122 PD6 (io), 123 PD7 (io), 133 PB3 (io), 134 PB4 (io), 135 PB5 (io), 136 PB6 (io), 137 PB7 (io), 139 PB8 (io), 140 PB9 (io)
part B pins: 1 PE2 (io), 2 PE3 (io), 3 PE4 (io), 4 PE5 (io), 5 PE6 (io), 10 PF0 (io), 11 PF1 (io), 12 PF2 (io), 13 PF3 (io), 14 PF4 (io), 15 PF5 (io), 18 PF6 (io), 19 PF7 (io), 20 PF8 (io), 21 PF9 (io), 22 PF10 (io), 23 PH0/OSC_IN (io), 24 PH1/OSC_OUT (io), 25 NRST (io), 49 PF11 (io), 50 PF12 (io), 53 PF13 (io), 54 PF14 (io), 55 PF15 (io), 56 PG0 (io), 57 PG1 (io), 58 PE7 (io), 59 PE8 (io), 60 PE9 (io), 63 PE10 (io), 64 PE11 (io), 65 PE12 (io), 66 PE13 (io), 67 PE14 (io), 68 PE15 (io), 87 PG2 (io), 88 PG3 (io), 89 PG4 (io), 90 PG5 (io), 91 PG6 (io), 92 PG7 (io), 93 PG8 (io), 124 PG9 (io), 125 PG10 (io), 126 PG11 (io), 127 PG12 (io), 128 PG13 (io), 129 PG14 (io), 132 PG15 (io), 138 BOOT0 (in), 141 PE0 (io), 142 PE1 (io), 143 PDR_ON (in)
part C pins: 6 VBAT (power), 16 VSS (power), 17 VDD (power), 30 VDD (power), 31 VSSA (power), 32 VREF+ (power), 33 VDDA (power), 38 VSS (power), 39 VDD (power), 51 VSS (power), 52 VDD (power), 61 VSS (power), 62 VDD (power), 71 VCAP_1 (power), 72 VDD (power), 83 VSS (power), 84 VDD (power), 94 VSS (power), 95 VDD (power), 106 VCAP_2 (power), 107 VSS (power), 108 VDD (power), 120 VSS (power), 121 VDD (power), 130 VSS (power), 131 VDD (power), 144 VDD (power)

## TLLG4400
designator LED?, comment 3mm LED
Green 569nm LED Indication - Discrete 1.9V Radial; MP: TLLG4400; MF: Vishay; Package: Radial Vishay; Value: *; Digi-Key_Purchase_URL: https://www.digikey.com.tr/product-detail/en/vishay-semiconductor-opto-division/TLLG4400-AS12/TLLG4400-AS12TR-ND/6594860?utm_source=snapeda&utm_medium=aggregator&utm_campaign=symbol; Digi-Key_Part_Number: TLLG4400-AS12TR-ND; SnapEDA_Link: https://www.snapeda.com/parts/TLLG4400/Vishay/view-part/268070/?ref=snap
footprint LED3MM
pins: A, K C

## W25Q64JVSSIQ
designator U?
IC FLASH 64MBIT 104MHZ 8SOIC; Manufacturer: Winbond; Memory Type: FLASH,NOR; Interface: SPI,Serial; Max Supply Voltage: 3.6V; Min Supply Voltage: 2.7V; Page Size: 256B; Density: 64MB; Operating Supply Voltage: 3V; Address Bus Width: 24b; Access Time: 6ns; Supplier 1: Arrow Electronics; Manufacturer Part Number: W25Q64JVSSIQ; RoHS: Yes; Category: Flash; Stock 1: 24923; Pricing 1: 1=1.14900, 10=1.03090, 25=1.01110, 50=1.00110, 100=0.92440, 250=0.91670, 500=0.90340, 1000=0.87160, 5000=0.77800 (USD); Mount: Surface Mount; Case/Package: SOIC; Number of Pins: 8; Min Operating Temperature: -40°C; Max Operating Temperature: 85°C; Packaging: Tray; Frequency: 104MHz; RoHS Compliant: Yes; ComponentLink1URL: http://www.winbond.com/resource-files/w25q64jv%20revj%2003272018%20plus.pdf?src-supplier=Digi-Key; ComponentLink1Description: http://www.winbond.com/resource-files/w25q64jv%20revj%2003272018%20plus.pdf?src-supplier=Digi-Key; Supplier Part Number 1: W25Q64JVSSIQ
footprint SOIC-8 (SOIC, 8-Leads, Body 4.9x3.9mm, Pitch 1.27mm, IPC Low Density)
pins: 1 ~{CS} (in), 2 DO(IO1) (io), 3 ~{WP}(IO2) (io), 4 GND (power), 5 DI(IO0) (io), 6 CLK (in), 7 ~{HOLD} or ~{RESET}(IO3) (io), 8 VCC (power)